# Altium schematic symbol library CL10B104KB8NNWC.SchLib: 1 symbol
Pins are listed as number, name and electrical type; pins without a type are passive.

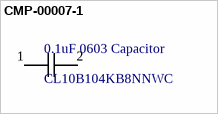
[diagram p0: symbol CMP-00007-1]

## CMP-00007-1
designator 0.1uF 0603 Capacitor, comment CL10B104KB8NNWC
Cap Ceramic 0.1uF 50V X7R 10% SMD 0603 125°C Paper T/R
footprint CAPC1608X09N (Chip Capacitor, 2-Leads, Body 1.60x0.80mm, IPC Medium Density)
pins: 1, 2